# Altium footprint library IC.PcbLib: 20 footprints (part 1 of 2)
Each footprint in its own frame and in the unit in brackets; x right, y up, seen from the top. Pads: shape width x height; smd on the part's side, far side on the other; paste and mask are expansions set on the pad; w line width, h text height; cw(c..) or ccw(c..) is an arc to the next point about the centre after c.
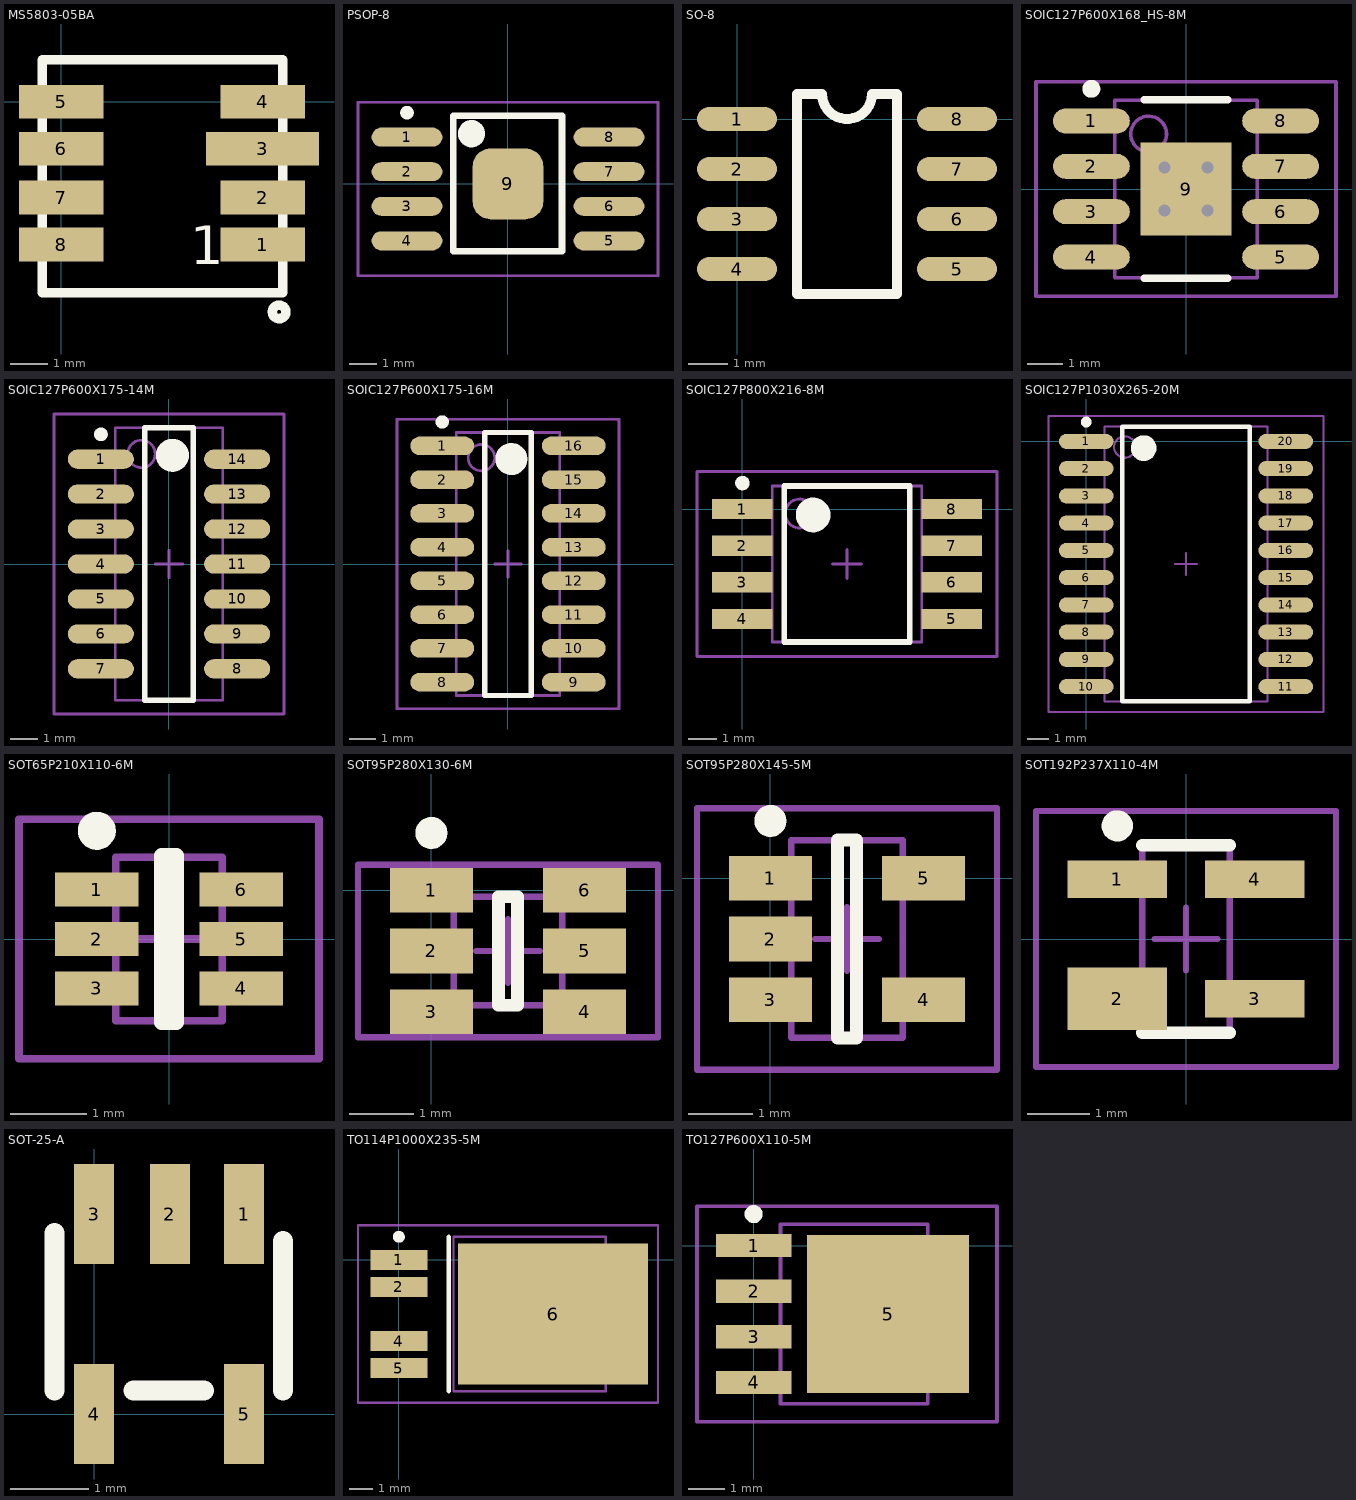
[diagram p0: the footprints below, top view; thin cyan lines are the x and y axes]

## MS5803-05BA [mm]
pads (8):
  rect 2.25x0.9 smd: 1(5.35,-3.8) 2(5.35,-2.55) 4(5.35,0) 5(0,0) 6(0,-1.25) 7(0,-2.55) 8(0,-3.8)
  rect 3x0.9 smd: 3(5.35,-1.25)
Top Overlay:
  circle w0.254: c5.789,-5.588 r0.18
  lines w0.254: -0.508,-5.08 5.892,-5.08 5.892,1.12 -0.508,1.12 -0.508,-5.08
  text "1" at 3.429,-4.318 h1.02

## PCBComponent_1 - duplicate [mm]

## PSOP-8 [mm]
pads (9):
  oval 2.6x0.7 smd: 1(-3.711,1.717) 2(-3.711,0.447) 3(-3.711,-0.823) 4(-3.711,-2.093) 5(3.711,-2.093) 6(3.711,-0.823) 7(3.711,0.447) 8(3.711,1.717)
  rrect50% 2.6x2.6 smd: 9(0,0)
Top Overlay:
  circle w0.6: c-1.343,1.844 r0.2
  circle w0.25: c-3.711,2.617 r0.125
  lines w0.254: -2.011,-2.474 1.989,-2.474 1.989,2.502 -2.011,2.502 -2.011,-2.474
Mechanical 15:
  lines w0.1: -5.511,-3.378 -5.511,3.002 5.511,3.002 5.511,-3.378 -5.511,-3.378

## SO-8 [mil]
pads (8):
  oval 80x24 smd: 1(0,0) 2(0,-50) 3(0,-100) 4(0,-150) 5(220,-150) 6(220,-100) 7(220,-50) 8(220,0)
Top Overlay:
  lines w10: 60,-175 160,-175 160,25 135,25 cw(c110,25) 85,25 60,25 60,-175

## SOIC127P600X168_HS-8M [mm] "SOIC, 8-Leads, Body 5.0x4.0mm (max), Pitch 1.27mm, IPC Low Density"
height 1.68
pads (9):
  oval 2.15x0.7 smd: 1(-2.65,1.905) 2(-2.65,0.635) 3(-2.65,-0.635) 4(-2.65,-1.905) 5(2.65,-1.905) 6(2.65,-0.635) 7(2.65,0.635) 8(2.65,1.905)
  rect 2.55x2.6 smd: 9(0,0)
via -0.6,0.6 diameter 0.66 hole 0.33
via 0.6,0.6 diameter 0.66 hole 0.33
via -0.6,-0.6 diameter 0.66 hole 0.33
via 0.6,-0.6 diameter 0.66 hole 0.33
Top Overlay:
  circle w0.25: c-2.65,2.805 r0.125
  lines w0.2: -1.175,-2.5 1.175,-2.5 ; -1.175,2.5 1.175,2.5
Mechanical 13:
  circle w0.1: c-1.045,1.54 r0.5
  lines w0.1: -1.995,-2.49 -1.995,2.49 1.995,2.49 1.995,-2.49 -1.995,-2.49
Mechanical 15:
  lines w0.1: -0.5,0 0.5,0 ; 0,-0.5 0,0.5 ; -4.2,-3 -4.2,3 4.2,3 4.2,-3 -4.2,-3
3D body: height 1.68, standoff 0, extent -1.995,-2.49 1.995,2.49

## SOIC127P600X175-14M [mm] "SOIC, 14-Leads, Body 9.9x3.9mm (max), Pitch 1.27mm, IPC Low Density"
height 1.75
pads (14):
  oval 2.4x0.7 smd: 1(-2.475,3.81) 2(-2.475,2.54) 3(-2.475,1.27) 4(-2.475,0) 5(-2.475,-1.27) 6(-2.475,-2.54) 7(-2.475,-3.81) 8(2.475,-3.81) 9(2.475,-2.54) 10(2.475,-1.27) 11(2.475,0) 12(2.475,1.27) 13(2.475,2.54) 14(2.475,3.81)
Top Overlay:
  circle w0.6: c0.125,3.95 r0.3
  circle w0.25: c-2.475,4.71 r0.125
  lines w0.2: -0.875,-4.95 0.875,-4.95 0.875,4.95 -0.875,4.95 -0.875,-4.95
Mechanical 13:
  circle w0.1: c-1,4 r0.5
  lines w0.1: -1.95,-4.95 1.95,-4.95 1.95,4.95 -1.95,4.95 -1.95,-4.95
Mechanical 15:
  lines w0.1: -0.5,0 0.5,0 ; 0,-0.5 0,0.5 ; -4.175,-5.45 4.175,-5.45 4.175,5.45 -4.175,5.45 -4.175,-5.45
3D body: height 1.75, standoff 0.25, extent -1.95,-4.95 1.95,4.95

## SOIC127P600X175-16M [mm]
pads (16):
  oval 2.4x0.7 smd: 1(-2.475,4.445) 2(-2.475,3.175) 3(-2.475,1.905) 4(-2.475,0.635) 5(-2.475,-0.635) 6(-2.475,-1.905) 7(-2.475,-3.175) 8(-2.475,-4.445) 9(2.475,-4.445) 10(2.475,-3.175) 11(2.475,-1.905) 12(2.475,-0.635) 13(2.475,0.635) 14(2.475,1.905) 15(2.475,3.175) 16(2.475,4.445)
Top Overlay:
  circle w0.6: c0.125,3.95 r0.3
  circle w0.25: c-2.475,5.345 r0.125
  lines w0.2: -0.875,-4.95 0.875,-4.95 0.875,4.95 -0.875,4.95 -0.875,-4.95
Mechanical 13:
  circle w0.1: c-1,4 r0.5
  lines w0.1: -1.95,-4.95 1.95,-4.95 1.95,4.95 -1.95,4.95 -1.95,-4.95
Mechanical 15:
  lines w0.1: -0.5,0 0.5,0 ; 0,-0.5 0,0.5 ; -4.175,-5.45 4.175,-5.45 4.175,5.45 -4.175,5.45 -4.175,-5.45
3D body: height 1.75, standoff 0.1, extent -1.95,-4.95 1.95,4.95

## SOIC127P800X216-8M [mm]
pads (8):
  rect 2.1x0.7 smd: 1(0,0) 2(0,-1.27) 3(0,-2.54) 4(0,-3.81) 5(7.25,-3.81) 6(7.25,-2.54) 7(7.25,-1.27) 8(7.25,0)
Top Overlay:
  circle w0.25: c0,0.9 r0.125
  circle w0.6: c2.45,-0.205 r0.3
  lines w0.2: 1.45,-4.605 1.45,0.795 5.8,0.795 5.8,-4.605 1.45,-4.605
Mechanical 13:
  circle w0.1: c1.985,-0.155 r0.5
  lines w0.1: 1.035,-4.605 1.035,0.795 6.215,0.795 6.215,-4.605 1.035,-4.605
Mechanical 15:
  lines w0.1: 3.125,-1.905 4.125,-1.905 ; 3.625,-2.405 3.625,-1.405 ; -1.575,-5.105 -1.575,1.295 8.825,1.295 8.825,-5.105 -1.575,-5.105
3D body: height 2.16, standoff 0.25, extent 1.035,-4.605 6.215,0.795

## SOIC127P1030X265-20M [mm] "SOIC, 20-Leads, Body 12.8x7.6mm (max), Pitch 1.27mm, IPC Low Density"
height 2.65
pads (20):
  oval 2.55x0.7 smd: 1(0,0) 2(0,-1.27) 3(0,-2.54) 4(0,-3.81) 5(0,-5.08) 6(0,-6.35) 7(0,-7.62) 8(0,-8.89) 9(0,-10.16) 10(0,-11.43) 11(9.3,-11.43) 12(9.3,-10.16) 13(9.3,-8.89) 14(9.3,-7.62) 15(9.3,-6.35) 16(9.3,-5.08) 17(9.3,-3.81) 18(9.3,-2.54) 19(9.3,-1.27) 20(9.3,0)
Top Overlay:
  circle w0.25: c0,0.9 r0.125
  circle w0.6: c2.675,-0.315 r0.3
  lines w0.2: 1.675,-12.115 1.675,0.685 7.625,0.685 7.625,-12.115 1.675,-12.115
Mechanical 13:
  circle w0.1: c1.8,-0.265 r0.5
  lines w0.1: 0.85,-12.115 0.85,0.685 8.45,0.685 8.45,-12.115 0.85,-12.115
Mechanical 15:
  lines w0.1: 4.15,-5.715 5.15,-5.715 ; 4.65,-6.215 4.65,-5.215 ; -1.75,-12.615 -1.75,1.185 11.05,1.185 11.05,-12.615 -1.75,-12.615
3D body: height 2.65, standoff 0.1, extent 0.85,-12.115 8.45,0.685

## SOT65P210X110-6M [mm] "SOT23, 6-Leads, Body 2.2x2.4mm (max), Pitch 0.65mm, IPC Low Density"
height 1.1
pads (6):
  rect 1.1x0.45 smd: 1(-0.95,0.65) 2(-0.95,0) 3(-0.95,-0.65) 4(0.95,-0.65) 5(0.95,0) 6(0.95,0.65)
Top Overlay:
  circle w0.25: c-0.95,1.425 r0.125
  lines w0.2: -0.1,-1.1 -0.1,1.1 0.1,1.1 0.1,-1.1 -0.1,-1.1
Mechanical 13:
  lines w0.1: -0.7,-1.075 0.7,-1.075 0.7,1.075 -0.7,1.075 -0.7,-1.075
Mechanical 15:
  lines w0.1: -0.5,0 0.5,0 ; 0,-0.5 0,0.5 ; -1.975,-1.575 1.975,-1.575 1.975,1.575 -1.975,1.575 -1.975,-1.575
3D body: height 1.1, standoff 0.1, extent -0.7,-1.075 0.7,1.075

## SOT95P280X130-6M [mm]
pads (6):
  rect 1.3x0.7 smd: 1(0,0) 2(0,-0.95) 3(0,-1.9) 4(2.4,-1.9) 5(2.4,-0.95) 6(2.4,0)
Top Overlay:
  circle w0.25: c0,0.9 r0.125
  lines w0.2: 1.05,-1.8 1.05,-0.1 1.35,-0.1 1.35,-1.8 1.05,-1.8
Mechanical 13:
  lines w0.1: 0.35,-1.8 2.05,-1.8 2.05,-0.1 0.35,-0.1 0.35,-1.8
Mechanical 15:
  lines w0.1: 0.7,-0.95 1.7,-0.95 ; 1.2,-1.45 1.2,-0.45 ; -1.15,-2.3 3.55,-2.3 3.55,0.4 -1.15,0.4 -1.15,-2.3
3D body: height 1.3, standoff 0.15, extent 0.35,-1.8 2.05,-0.1

## SOT95P280X145-5M [mm]
pads (5):
  rect 1.3x0.7 smd: 1(0,0) 2(0,-0.95) 3(0,-1.9) 4(2.4,-1.9) 5(2.4,0)
Top Overlay:
  circle w0.25: c0,0.9 r0.125
  lines w0.2: 1.05,-2.5 1.05,0.6 1.35,0.6 1.35,-2.5 1.05,-2.5
Mechanical 13:
  lines w0.1: 0.325,-2.5 2.075,-2.5 2.075,0.6 0.325,0.6 0.325,-2.5
Mechanical 15:
  lines w0.1: 0.7,-0.95 1.7,-0.95 ; 1.2,-1.45 1.2,-0.45 ; -1.15,-3 3.55,-3 3.55,1.1 -1.15,1.1 -1.15,-3
3D body: height 1.45, standoff 0.15, extent 0.325,-2.5 2.075,0.6

## SOT192P237X110-4M [mm] "SOT143, 4-Leads, Body 3.0x2.6mm (max), Pitch 1.92mm, IPC Low Density"
height 1.1
pads (4):
  rect 1.6x0.6 smd: 1(-1.1,0.96) 3(1.1,-0.96) 4(1.1,0.96)
  rect 1.6x1 smd: 2(-1.1,-0.96)
Top Overlay:
  circle w0.25: c-1.1,1.81 r0.125
  lines w0.2: -0.7,-1.5 0.7,-1.5 ; -0.7,1.5 0.7,1.5
Mechanical 13:
  lines w0.1: -0.7,-1.52 -0.7,1.52 0.7,1.52 0.7,-1.52 -0.7,-1.52
Mechanical 15:
  lines w0.1: -0.5,0 0.5,0 ; 0,-0.5 0,0.5 ; -2.4,-2.05 -2.4,2.05 2.4,2.05 2.4,-2.05 -2.4,-2.05
3D body: height 1.1, standoff 0.15, extent -0.7,-1.52 0.7,1.52

## SOT-25-A [mil]
pads (5):
  rect 20x50 smd: 1(75,100) 2(37.99,100) 3(0,100) 4(0,0) 5(75,0)
Top Overlay:
  lines w10: -19.68,11.81 -19.68,90.55 ; 19.68,11.81 55.12,11.81 ; 94.49,11.81 94.49,86.61

## TO114P1000X235-5M [mm]
pads (5):
  rect 2.4x0.85 smd: 1(0,0) 2(0,-1.14) 4(0,-3.42) 5(0,-4.56)
  rect 8x5.95 smd: 6(6.5,-2.28)
Top Overlay:
  circle w0.25: c0,0.975 r0.125
  lines w0.2: 2.1,-5.53 2.1,0.97
Mechanical 13:
  lines w0.1: 2.3,-5.53 8.72,-5.53 8.72,0.97 2.3,0.97 2.3,-5.53
Mechanical 15:
  lines w0.1: 4.1,-2.28 5.1,-2.28 ; 4.6,-2.78 4.6,-1.78 ; -1.725,-6.03 10.925,-6.03 10.925,1.47 -1.725,1.47 -1.725,-6.03
3D body: height 2.35, standoff 0.15, extent 2.3,-5.53 8.72,0.97

## TO127P600X110-5M [mm]
pads (5):
  rect 2.1x0.65 smd: 1(0,0) 2(0,-1.27) 3(0,-2.54) 4(0,-3.81)
  rect 4.5x4.41 smd: 5(3.743,-1.905)
Top Overlay:
  circle w0.25: c0,0.875 r0.125
Mechanical 13:
  lines w0.1: 0.75,-4.405 4.85,-4.405 4.85,0.595 0.75,0.595 0.75,-4.405
Mechanical 15:
  lines w0.1: 2.1,-1.905 3.1,-1.905 ; 2.6,-2.405 2.6,-1.405 ; -1.575,-4.905 6.775,-4.905 6.775,1.095 -1.575,1.095 -1.575,-4.905
3D body: height 1.1, standoff 0.15, extent 0.75,-4.405 4.85,0.595